# EAGLE library part NEO2101 (library neofocal)
Production String Controller. 1st Generation. WITHOUT boost converter.
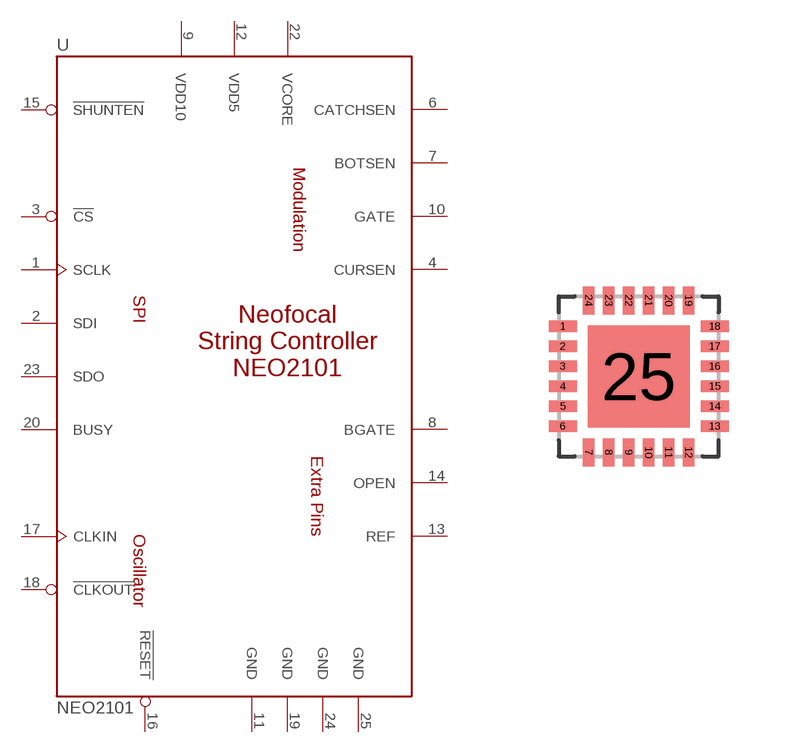
[diagram p5: symbol with the pads of 24QFN4X4; footprint 24QFN4X4]

Designator prefix U

## NEO2101B18  [24QFN4X4]
1  SCLK  in
2  SDI  in
3  !CS  in
4  CURSEN  in
6  CATCHSEN  in
7  BOTSEN  in
8  BGATE  out
9  VDD10  pwr
10  GATE  out
11  GND  pwr
12  VDD5  pwr
13  REF  out
14  OPEN  out
15  !SHUNTEN  in
16  !RESET  in
17  CLKIN  in
18  !CLKOUT  out
19  GND  pwr
20  BUSY  out
22  VCORE  sup
23  SDO  out
24  GND  pwr
25  GND  pwr

## Footprint 24QFN4X4 (pad centres in mm)
smd 0.7 x 0.28: 1 -1.9,1.25; 2 -1.9,0.75; 3 -1.9,0.25; 4 -1.9,-0.25; 5 -1.9,-0.75; 6 -1.9,-1.25; 13 1.9,-1.25; 14 1.9,-0.75; 15 1.9,-0.25; 16 1.9,0.25; 17 1.9,0.75; 18 1.9,1.25
smd 0.28 x 0.7: 7 -1.25,-1.9; 8 -0.75,-1.9; 9 -0.25,-1.9; 10 0.25,-1.9; 11 0.75,-1.9; 12 1.25,-1.9; 19 1.25,1.9; 20 0.75,1.9; 21 0.25,1.9; 22 -0.25,1.9; 23 -0.75,1.9; 24 -1.25,1.9
smd 2.55 x 2.55: 25 0,0